# Altium footprint library Con Mod Jack PCB.PcbLib: 213 footprints (part 13 of 14)
Each footprint in its own frame and in the unit in brackets; x right, y up, seen from the top. Pads: shape width x height; smd on the part's side, far side on the other; paste and mask are expansions set on the pad; w line width, h text height; cw(c..) or ccw(c..) is an arc to the next point about the centre after c.
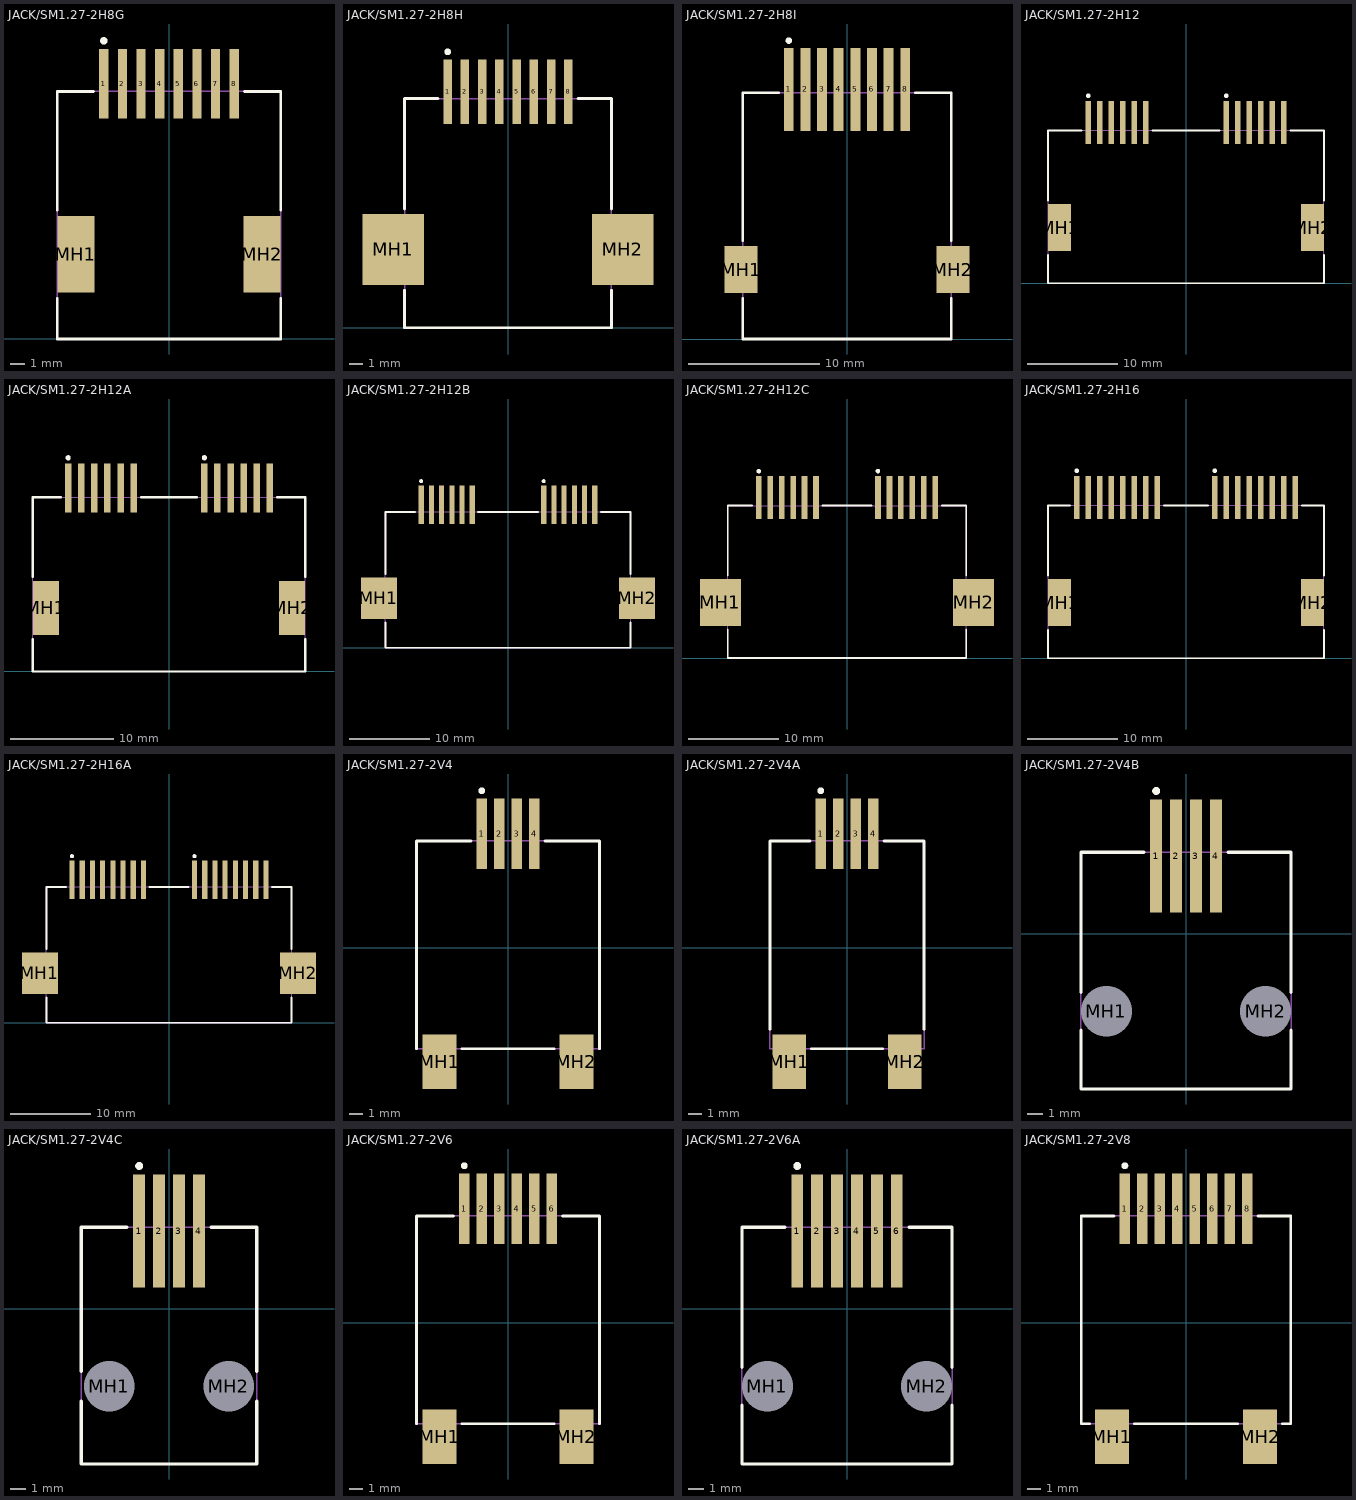
[diagram p12: the footprints below, top view; thin cyan lines are the x and y axes]

## JACK/SM1.27-2H8G [mil] "Connector; PCB Jack, SM; 1-Port, 8 Positions, 8 Loaded; Unshielded without Lightpipes; Right Angle"
height 459.06
pads (10):
  rect 25x187 smd: 1(-175,685.5) 2(-125,685.5) 3(-75,685.5) 4(-25,685.5) 5(25,685.5) 6(75,685.5) 7(125,685.5) 8(175,685.5)
  rect 100x205 smd: MH1(-250,227.5) MH2(250,227.5)
Top Overlay:
  circle w9.84: c-175,800.65 r4.92
  lines w7.87: -300,109.25 -300,0 300,0 300,109.25 ; -300,345.75 -300,665 -203.25,665 ; 203.25,665 300,665 300,345.75
Mechanical 13:
  lines w3.94: -300,0 -300,665 300,665 300,0 -300,0
3D body: height 459.06, standoff 0, extent -300,0 300,665

## JACK/SM1.27-2H8H [mil] "Connector; PCB Jack, SM; 1-Port, 8 Positions, 8 Loaded; Unshielded without Lightpipes; Right Angle"
height 459.06
pads (10):
  rect 25x187 smd: 1(-175,685.5) 2(-125,685.5) 3(-75,685.5) 4(-25,685.5) 5(25,685.5) 6(75,685.5) 7(125,685.5) 8(175,685.5)
  rect 178x205 smd: MH1(-332.5,227.5) MH2(332.5,227.5)
Top Overlay:
  circle w9.84: c-175,800.65 r4.92
  lines w7.87: -300,109.25 -300,0 300,0 300,109.25 ; -300,345 -300,665 -203.25,665 ; 203.25,665 300,665 300,345
Mechanical 13:
  lines w3.94: -300,0 -300,665 300,665 300,0 -300,0
3D body: height 459.06, standoff 0, extent -300,0 300,665

## JACK/SM1.27-2H8I [mm] "Connector; PCB Jack, SM; 1-Port, 8 Positions, 8 Loaded; Shielded without Lightpipes; Right Angle"
height 13.35
pads (10):
  rect 0.76x6.35 smd: 1(-4.445,19.05) 2(-3.175,19.05) 3(-1.905,19.05) 4(-0.635,19.05) 5(0.635,19.05) 6(1.905,19.05) 7(3.175,19.05) 8(4.445,19.05)
  rect 2.54x3.6 smd: MH1(-8.085,5.3) MH2(8.085,5.3)
Top Overlay:
  circle w0.25: c-4.445,22.775 r0.125
  lines w0.2: -7.95,3.1 -7.95,0 7.95,0 7.95,3.1 ; -7.95,7.5 -7.95,18.8 -5.225,18.8 ; 5.225,18.8 7.95,18.8 7.95,7.5
Mechanical 13:
  lines w0.1: -7.95,0 7.95,0 7.95,18.8 -7.95,18.8 -7.95,0
3D body: height 13.35, standoff 0, extent -7.95,0 7.95,18.8

## JACK/SM1.27-2H12 [mil] "Connector; PCB Jack, SM; 2-Port, 8 Positions, 6 Loaded; Unshielded without Lightpipes; Right Angle"
height 464.57
pads (14):
  rect 25x187 smd: A1(-425,700.5) A2(-375,700.5) A3(-325,700.5) A4(-275,700.5) A5(-225,700.5) A6(-175,700.5) B1(175,700.5) B2(225,700.5) B3(275,700.5) B4(325,700.5) B5(375,700.5) B6(425,700.5)
  rect 100x205 smd: MH1(-550,242.5) MH2(550,242.5)
Top Overlay:
  circle w9.84: c175,815.65 r4.92
  circle w9.84: c-425,815.65 r4.92
  lines w7.87: -600,124.25 -600,0 600,0 600,124.25 ; -600,360.75 -600,665 -453.25,665 ; -146.75,665 146.75,665 ; 453.25,665 600,665 600,360.75
Mechanical 13:
  lines w3.94: -600,0 -600,665 600,665 600,0 -600,0
3D body: height 464.57, standoff 0, extent -600,0 600,665

## JACK/SM1.27-2H12A [mil] "Connector; PCB Jack, SM; 2-Port, 6 Positions, 6 Loaded; Unshielded without Lightpipes; Right Angle"
height 464.57
pads (14):
  rect 25x187 smd: A1(-385,700.5) A2(-335,700.5) A3(-285,700.5) A4(-235,700.5) A5(-185,700.5) A6(-135,700.5) B1(135,700.5) B2(185,700.5) B3(235,700.5) B4(285,700.5) B5(335,700.5) B6(385,700.5)
  rect 100x205 smd: MH1(-470,242.5) MH2(470,242.5)
Top Overlay:
  circle w9.84: c135,815.65 r4.92
  circle w9.84: c-385,815.65 r4.92
  lines w7.87: -520,124.25 -520,0 520,0 520,124.25 ; -520,360.75 -520,665 -413.25,665 ; -106.75,665 106.75,665 ; 413.25,665 520,665 520,360.75
Mechanical 13:
  lines w3.94: -520,0 -520,665 520,665 520,0 -520,0
3D body: height 464.57, standoff 0, extent -520,0 520,665

## JACK/SM1.27-2H12B [mil] "Connector; PCB Jack, SM; 2-Port, 8 Positions, 6 Loaded; Unshielded without Lightpipes; Right Angle"
height 464.57
pads (14):
  rect 25x187 smd: A1(-425,700.5) A2(-375,700.5) A3(-325,700.5) A4(-275,700.5) A5(-225,700.5) A6(-175,700.5) B1(175,700.5) B2(225,700.5) B3(275,700.5) B4(325,700.5) B5(375,700.5) B6(425,700.5)
  rect 178x205 smd: MH1(-632,242.5) MH2(632,242.5)
Top Overlay:
  circle w9.84: c175,815.65 r4.92
  circle w9.84: c-425,815.65 r4.92
  lines w7.87: -600,124.25 -600,0 600,0 600,124.25 ; -600,360.75 -600,665 -453.25,665 ; -146.75,665 146.75,665 ; 453.25,665 600,665 600,360.75
Mechanical 13:
  lines w3.94: -600,0 -600,665 600,665 600,0 -600,0
3D body: height 464.57, standoff 0, extent -600,0 600,665

## JACK/SM1.27-2H12C [mil] "Connector; PCB Jack, SM; 2-Port, 6 Positions, 6 Loaded; Unshielded without Lightpipes; Right Angle"
height 464.57
pads (14):
  rect 25x187 smd: A1(-385,700.5) A2(-335,700.5) A3(-285,700.5) A4(-235,700.5) A5(-185,700.5) A6(-135,700.5) B1(135,700.5) B2(185,700.5) B3(235,700.5) B4(285,700.5) B5(335,700.5) B6(385,700.5)
  rect 178x205 smd: MH1(-552,242.5) MH2(552,242.5)
Top Overlay:
  circle w9.84: c-385,815.65 r4.92
  circle w9.84: c135,815.65 r4.92
  lines w7.87: -520,124.25 -520,0 520,0 520,124.25 ; -520,360.75 -520,665 -413.25,665 ; -106.75,665 106.75,665 ; 413.25,665 520,665 520,360.75
Mechanical 13:
  lines w3.94: -520,0 -520,665 520,665 520,0 -520,0
3D body: height 464.57, standoff 0, extent -520,0 520,665

## JACK/SM1.27-2H16 [mil] "Connector; PCB Jack, SM; 2-Port, 8 Positions, 8 Loaded; Unshielded without Lightpipes; Right Angle"
height 464.57
pads (18):
  rect 25x187 smd: A1(-475,700.5) A2(-425,700.5) A3(-375,700.5) A4(-325,700.5) A5(-275,700.5) A6(-225,700.5) A7(-175,700.5) A8(-125,700.5) B1(125,700.5) B2(175,700.5) B3(225,700.5) B4(275,700.5) B5(325,700.5) B6(375,700.5) B7(425,700.5) B8(475,700.5)
  rect 100x205 smd: MH1(-550,242.5) MH2(550,242.5)
Top Overlay:
  circle w9.84: c125,815.65 r4.92
  circle w9.84: c-475,815.65 r4.92
  lines w7.87: -600,124.25 -600,0 600,0 600,124.25 ; -600,360.75 -600,665 -503.25,665 ; -96.75,665 96.75,665 ; 503.25,665 600,665 600,360.75
Mechanical 13:
  lines w3.94: -600,0 -600,665 600,665 600,0 -600,0
3D body: height 464.57, standoff 0, extent -600,0 600,665

## JACK/SM1.27-2H16A [mil] "Connector; PCB Jack, SM; 2-Port, 8 Positions, 8 Loaded; Unshielded without Lightpipes; Right Angle"
height 464.57
pads (18):
  rect 25x187 smd: A1(-475,700.5) A2(-425,700.5) A3(-375,700.5) A4(-325,700.5) A5(-275,700.5) A6(-225,700.5) A7(-175,700.5) A8(-125,700.5) B1(125,700.5) B2(175,700.5) B3(225,700.5) B4(275,700.5) B5(325,700.5) B6(375,700.5) B7(425,700.5) B8(475,700.5)
  rect 178x205 smd: MH1(-632,242.5) MH2(632,242.5)
Top Overlay:
  circle w9.84: c125,815.65 r4.92
  circle w9.84: c-475,815.65 r4.92
  lines w7.87: -600,124.25 -600,0 600,0 600,124.25 ; -600,360.75 -600,665 -503.25,665 ; -96.75,665 96.75,665 ; 503.25,665 600,665 600,360.75
Mechanical 13:
  lines w3.94: -600,0 -600,665 600,665 600,0 -600,0
3D body: height 464.57, standoff 0, extent -600,0 600,665

## JACK/SM1.27-2V4 [mm] "Connector; PCB Jack, SM; 1-Port, 6 Positions, 4 Loaded; Unshielded without Lightpipes; Vertical"
height 15.7
pads (6):
  rect 0.76x5.15 smd: 1(-1.905,8.287) 2(-0.635,8.287) 3(0.635,8.287) 4(1.905,8.287)
  rect 2.45x3.95 smd: MH1(-4.975,-8.287) MH2(4.975,-8.287)
Top Overlay:
  circle w0.25: c-1.905,11.412 r0.125
  lines w0.2: -6.65,-7.338 -6.65,7.762 -2.685,7.762 ; -3.35,-7.338 3.35,-7.338 ; 2.685,7.762 6.65,7.762 6.65,-7.338
Mechanical 13:
  lines w0.1: -6.65,-7.338 -6.65,7.762 6.65,7.762 6.65,-7.338 -6.65,-7.338
3D body: height 15.7, standoff 0, extent -6.65,-7.338 6.65,7.762

## JACK/SM1.27-2V4A [mm] "Connector; PCB Jack, SM; 1-Port, 4 Positions, 4 Loaded; Unshielded without Lightpipes; Vertical"
height 15.7
pads (6):
  rect 0.76x5.15 smd: 1(-1.905,8.287) 2(-0.635,8.287) 3(0.635,8.287) 4(1.905,8.287)
  rect 2.45x3.95 smd: MH1(-4.2,-8.287) MH2(4.2,-8.287)
Top Overlay:
  circle w0.25: c-1.905,11.412 r0.125
  lines w0.2: -5.6,-5.913 -5.6,7.762 -2.685,7.762 ; -2.575,-7.338 2.575,-7.338 ; 2.685,7.762 5.6,7.762 5.6,-5.913
Mechanical 13:
  lines w0.1: -5.6,-7.338 -5.6,7.762 5.6,7.762 5.6,-7.338 -5.6,-7.338
3D body: height 15.7, standoff 0, extent -5.6,-7.338 5.6,7.762

## JACK/SM1.27-2V4B [mm] "Connector; PCB Jack, SM; 1-Port, 6 Positions, 4 Loaded; Unshielded without Lightpipes; Vertical"
height 15.7
pads (6):
  rect 0.76x7.2 smd: 1(-1.905,4.95) 2(-0.635,4.95) 3(0.635,4.95) 4(1.905,4.95)
  round 2.95 hole 3.25 unplated: MH1(-5.08,-4.95) MH2(5.08,-4.95)
Top Overlay:
  circle w0.25: c-1.905,9.1 r0.125
  lines w0.2: -6.7,-6.165 -6.7,-9.91 6.7,-9.91 6.7,-6.165 ; -6.7,-3.735 -6.7,5.19 -2.685,5.19 ; 2.685,5.19 6.7,5.19 6.7,-3.735
Mechanical 13:
  lines w0.1: -6.7,-9.91 -6.7,5.19 6.7,5.19 6.7,-9.91 -6.7,-9.91
3D body: height 15.7, standoff 0, extent -6.7,-9.91 6.7,5.19

## JACK/SM1.27-2V4C [mm] "Connector; PCB Jack, SM; 1-Port, 4 Positions, 4 Loaded; Unshielded without Lightpipes; Vertical"
height 15.7
pads (6):
  rect 0.76x7.2 smd: 1(-1.905,4.95) 2(-0.635,4.95) 3(0.635,4.95) 4(1.905,4.95)
  round 2.95 hole 3.25 unplated: MH1(-3.81,-4.95) MH2(3.81,-4.95)
Top Overlay:
  circle w0.25: c-1.905,9.1 r0.125
  lines w0.2: -5.6,-5.897 -5.6,-9.91 5.6,-9.91 5.6,-5.897 ; -5.6,-4.003 -5.6,5.19 -2.685,5.19 ; 2.685,5.19 5.6,5.19 5.6,-4.003
Mechanical 13:
  lines w0.1: -5.6,-9.91 -5.6,5.19 5.6,5.19 5.6,-9.91 -5.6,-9.91
3D body: height 15.7, standoff 0, extent -5.6,-9.91 5.6,5.19

## JACK/SM1.27-2V6 [mm] "Connector; PCB Jack, SM; 1-Port, 6 Positions, 6 Loaded; Unshielded without Lightpipes; Vertical"
height 15.7
pads (8):
  rect 0.76x5.15 smd: 1(-3.175,8.287) 2(-1.905,8.287) 3(-0.635,8.287) 4(0.635,8.287) 5(1.905,8.287) 6(3.175,8.287)
  rect 2.45x3.95 smd: MH1(-4.975,-8.287) MH2(4.975,-8.287)
Top Overlay:
  circle w0.25: c-3.175,11.412 r0.125
  lines w0.2: -6.65,-7.338 -6.65,7.762 -3.955,7.762 ; -3.35,-7.338 3.35,-7.338 ; 3.955,7.762 6.65,7.762 6.65,-7.338
Mechanical 13:
  lines w0.1: -6.65,-7.338 -6.65,7.762 6.65,7.762 6.65,-7.338 -6.65,-7.338
3D body: height 15.7, standoff 0, extent -6.65,-7.338 6.65,7.762

## JACK/SM1.27-2V6A [mm] "Connector; PCB Jack, SM; 1-Port, 6 Positions, 6 Loaded; Unshielded without Lightpipes; Vertical"
height 15.7
pads (8):
  rect 0.76x7.2 smd: 1(-3.175,4.95) 2(-1.905,4.95) 3(-0.635,4.95) 4(0.635,4.95) 5(1.905,4.95) 6(3.175,4.95)
  round 2.95 hole 3.25 unplated: MH1(-5.08,-4.95) MH2(5.08,-4.95)
Top Overlay:
  circle w0.25: c-3.175,9.1 r0.125
  lines w0.2: -6.7,-6.165 -6.7,-9.91 6.7,-9.91 6.7,-6.165 ; -6.7,-3.735 -6.7,5.19 -3.955,5.19 ; 3.955,5.19 6.7,5.19 6.7,-3.735
Mechanical 13:
  lines w0.1: -6.7,-9.91 -6.7,5.19 6.7,5.19 6.7,-9.91 -6.7,-9.91
3D body: height 15.7, standoff 0, extent -6.7,-9.91 6.7,5.19

## JACK/SM1.27-2V8 [mm] "Connector; PCB Jack, SM; 1-Port, 8 Positions, 8 Loaded; Unshielded without Lightpipes; Vertical"
height 15.7
pads (10):
  rect 0.76x5.15 smd: 1(-4.445,8.287) 2(-3.175,8.287) 3(-1.905,8.287) 4(-0.635,8.287) 5(0.635,8.287) 6(1.905,8.287) 7(3.175,8.287) 8(4.445,8.287)
  rect 2.45x3.95 smd: MH1(-5.385,-8.287) MH2(5.385,-8.287)
Top Overlay:
  circle w0.25: c-4.445,11.412 r0.125
  lines w0.2: -7.01,-7.338 -7.62,-7.338 -7.62,7.762 -5.225,7.762 ; -3.76,-7.338 3.76,-7.338 ; 5.225,7.762 7.62,7.762 7.62,-7.338 7.01,-7.338
Mechanical 13:
  lines w0.1: -7.62,-7.338 -7.62,7.762 7.62,7.762 7.62,-7.338 -7.62,-7.338
3D body: height 15.7, standoff 0, extent -7.62,-7.338 7.62,7.762